# EAGLE library part ATMEGA328P-AUR (library ATMEGA328P-AUR)
TQFP - High Performance, Low Power Atmel®AVR® 8-Bit Microcontroller Family
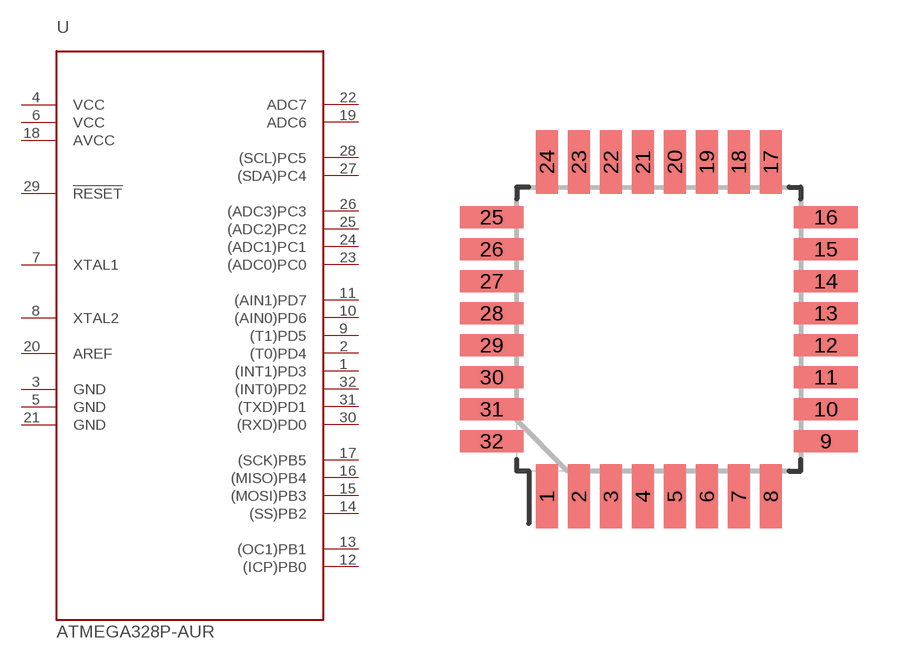
[diagram p0: symbol with the pads of TQFP-32; footprint TQFP-32]

Designator prefix U

## ATMEGA328P-AUR  [TQFP-32]
1  (INT1)PD3
2  (T0)PD4
3  GND
4  VCC
5  GND
6  VCC
7  XTAL1
8  XTAL2
9  (T1)PD5
10  (AIN0)PD6
11  (AIN1)PD7
12  (ICP)PB0
13  (OC1)PB1
14  (SS)PB2
15  (MOSI)PB3
16  (MISO)PB4
17  (SCK)PB5
18  AVCC
19  ADC6
20  AREF
21  GND
22  ADC7
23  (ADC0)PC0
24  (ADC1)PC1
25  (ADC2)PC2
26  (ADC3)PC3
27  (SDA)PC4
28  (SCL)PC5
29  !RESET
30  (RXD)PD0
31  (TXD)PD1
32  (INT0)PD2

## Footprint TQFP-32 (pad centres in mm)
Quad Flat Pack (QFP), 0.80 mm pitch;square,8 pin X 8 pin,7.00 mm L X 7.00 mm W X 1.20 mm H body PCB Libraries Packages
smd 0.55 x 1.6: 1 -2.8,-4.18; 2 -2,-4.18; 3 -1.2,-4.18; 4 -0.4,-4.18; 5 0.4,-4.18; 6 1.2,-4.18; 7 2,-4.18; 8 2.8,-4.18; 17 2.8,4.18; 18 2,4.18; 19 1.2,4.18; 20 0.4,4.18; 21 -0.4,4.18; 22 -1.2,4.18; 23 -2,4.18; 24 -2.8,4.18
smd 1.6 x 0.55: 9 4.18,-2.8; 10 4.18,-2; 11 4.18,-1.2; 12 4.18,-0.4; 13 4.18,0.4; 14 4.18,1.2; 15 4.18,2; 16 4.18,2.8; 25 -4.18,2.8; 26 -4.18,2; 27 -4.18,1.2; 28 -4.18,0.4; 29 -4.18,-0.4; 30 -4.18,-1.2; 31 -4.18,-2; 32 -4.18,-2.8